# Altium footprint library PCB_Project.PcbLib: 7 footprints
Each footprint in its own frame and in the unit in brackets; x right, y up, seen from the top. Pads: shape width x height; smd on the part's side, far side on the other; paste and mask are expansions set on the pad; w line width, h text height; cw(c..) or ccw(c..) is an arc to the next point about the centre after c.
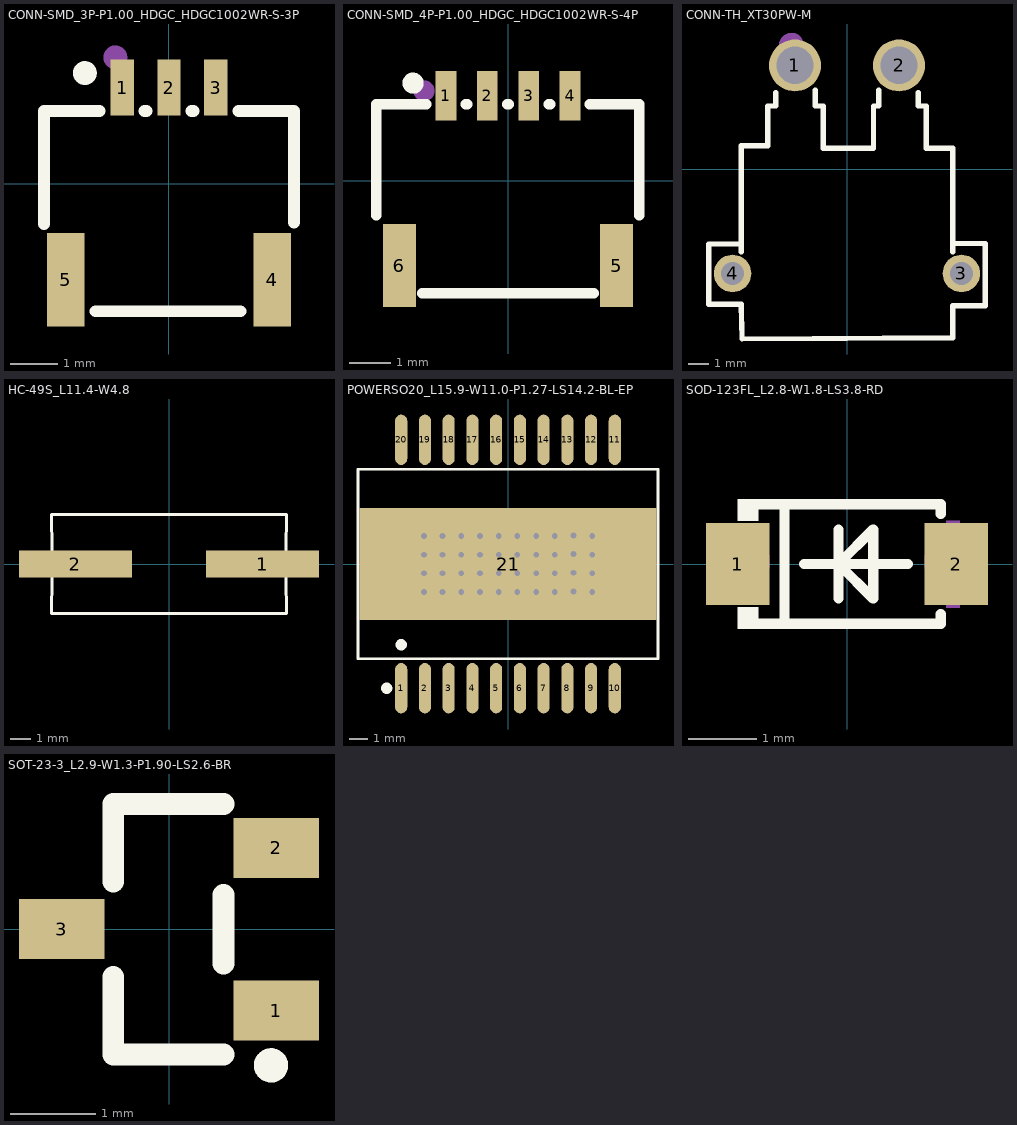
[diagram p0: the footprints below, top view; thin cyan lines are the x and y axes]

## CONN-SMD_3P-P1.00_HDGC_HDGC1002WR-S-3P [mm]
pads (5):
  rect 0.5x1.2 smd: 1(-1,2.05) 2(0,2.05) 3(1,2.05)
  rect 0.8x2 smd: 4(2.2,-2.05) 5(-2.2,-2.05)
Top Overlay:
  circle w0.254: c-1.794,2.358 r0.127
  lines w0.254: -2.667,-0.862 -2.667,1.551 -1.481,1.551 ; -1.569,-2.722 1.524,-2.722 ; -0.519,1.551 -0.481,1.551 ; 0.481,1.551 0.519,1.551 ; 1.481,1.551 2.667,1.551 2.667,-0.829
Mechanical 15:
  circle w0.254: c-1.143,2.694 r0.127

## CONN-SMD_4P-P1.00_HDGC_HDGC1002WR-S-4P [mm]
pads (6):
  rect 0.5x1.2 smd: 1(-1.5,2.05) 2(-0.5,2.05) 3(0.5,2.05) 4(1.5,2.05)
  rect 0.8x2 smd: 5(2.625,-2.05) 6(-2.625,-2.05)
Top Overlay:
  circle w0.254: c-2.294,2.358 r0.127
  lines w0.254: -3.183,-0.834 -3.183,1.85 -1.981,1.85 ; -2.069,-2.722 2.069,-2.722 ; -1.019,1.85 -0.981,1.85 ; -0.019,1.85 0.019,1.85 ; 0.981,1.85 1.019,1.85 ; 1.981,1.85 3.167,1.85 3.167,-0.829
Mechanical 15:
  circle w0.254: c-2.03,2.17 r0.127

## CONN-TH_XT30PW-M [mm]
pads (4):
  round 2.5 hole 1.8: 1(-2.5,5) 2(2.5,5)
  round 1.8 hole 1.1: 3(5.5,-5) 4(-5.5,-5)
Top Overlay:
  lines w0.254: -5.08,-3.95 -5.08,0.047 -5.08,1.143 -3.81,1.143 -3.81,3.048 -3.429,3.048 -3.429,3.683 ; -5.08,-3.585 -6.65,-3.585 -6.65,-6.48 -5.08,-6.48 -5.05,-8.15 5.08,-8.091 5.08,-6.549 ; -1.524,3.81 -1.524,3.048 -1.143,3.048 -1.143,1.016 1.27,1.016 1.27,3.048 1.524,3.048 1.524,3.81 ; 3.429,3.683 3.429,3.048 3.81,3.048 3.81,1.016 5.08,1.016 5.08,0.047 5.08,-3.95 ; 5.08,-6.55 6.65,-6.55 6.65,-3.559 5.08,-3.559
Mechanical 15:
  circle w0.6: c-2.667,5.969 r0.3

## HC-49S_L11.4-W4.8 [mm]
pads (2):
  rect 5.5x1.3 smd: 1(4.553,0) 2(-4.553,0)
Top Overlay:
  lines w0.152: -5.715,-2.413 -5.7,-0.662 -5.715,-2.413 ; -5.715,-2.413 5.715,-2.413 ; -5.715,-2.413 5.715,-2.413 ; -5.715,2.413 5.715,2.413 ; -5.715,2.413 -5.7,0.662 -5.715,2.413 ; -5.715,2.413 5.715,2.413 ; 5.715,-2.413 5.7,-0.662 5.715,-2.413 ; 5.715,2.413 5.7,0.662 5.715,2.413

## POWERSO20_L15.9-W11.0-P1.27-LS14.2-BL-EP [mm]
pads (21):
  oval 0.651x2.695 smd: 1(-5.715,-6.648) 2(-4.445,-6.648) 3(-3.175,-6.648) 4(-1.905,-6.648) 5(-0.635,-6.648) 6(0.635,-6.648) 7(1.905,-6.648) 8(3.175,-6.648) 9(4.445,-6.648) 10(5.715,-6.648) 11(5.715,6.648) 12(4.445,6.648) 13(3.175,6.648) 14(1.905,6.648) 15(0.635,6.648) 16(-0.635,6.648) 17(-1.905,6.648) 18(-3.175,6.648) 19(-4.445,6.648) 20(-5.715,6.648)
  rect 15.9x6 smd: 21(0,0)
via -4.5,1.5 diameter 0.61 hole 0.305
via -3.5,1.5 diameter 0.61 hole 0.305
via -2.5,1.5 diameter 0.61 hole 0.305
via -1.5,1.5 diameter 0.61 hole 0.305
via -0.5,1.5 diameter 0.61 hole 0.305
via 0.5,1.5 diameter 0.61 hole 0.305
via 1.515,1.5 diameter 0.61 hole 0.305
via 2.5,1.5 diameter 0.61 hole 0.305
via 3.5,1.53 diameter 0.61 hole 0.305
via 4.5,1.5 diameter 0.61 hole 0.305
via -4.5,0.5 diameter 0.61 hole 0.305
via -3.5,0.5 diameter 0.61 hole 0.305
via -2.5,0.5 diameter 0.61 hole 0.305
via -1.5,0.5 diameter 0.61 hole 0.305
via -0.5,0.5 diameter 0.61 hole 0.305
via 0.5,0.5 diameter 0.61 hole 0.305
via 1.515,0.5 diameter 0.61 hole 0.305
via 2.5,0.5 diameter 0.61 hole 0.305
via 3.5,0.53 diameter 0.61 hole 0.305
via 4.5,0.5 diameter 0.61 hole 0.305
via -4.5,-0.5 diameter 0.61 hole 0.305
via -3.5,-0.5 diameter 0.61 hole 0.305
via -2.5,-0.5 diameter 0.61 hole 0.305
via -1.5,-0.5 diameter 0.61 hole 0.305
via -0.5,-0.5 diameter 0.61 hole 0.305
via 0.5,-0.5 diameter 0.61 hole 0.305
via 1.515,-0.5 diameter 0.61 hole 0.305
via 2.5,-0.5 diameter 0.61 hole 0.305
via 3.5,-0.47 diameter 0.61 hole 0.305
via 4.5,-0.5 diameter 0.61 hole 0.305
via -4.5,-1.5 diameter 0.61 hole 0.305
via -3.5,-1.5 diameter 0.61 hole 0.305
via -2.5,-1.5 diameter 0.61 hole 0.305
via -1.5,-1.5 diameter 0.61 hole 0.305
via -0.5,-1.5 diameter 0.61 hole 0.305
via 0.5,-1.5 diameter 0.61 hole 0.305
via 1.515,-1.5 diameter 0.61 hole 0.305
via 2.5,-1.5 diameter 0.61 hole 0.305
via 3.5,-1.47 diameter 0.61 hole 0.305
via 4.5,-1.5 diameter 0.61 hole 0.305
Top Overlay:
  circle w0.3: c-6.493,-6.648 r0.15
  circle w0.3: c-5.715,-4.319 r0.15
  lines w0.152: -8.026,-5.071 8.026,-5.071 8.026,5.071 -8.026,5.071 -8.026,-5.071
Mechanical 15:
  circle w0.3: c-5.715,-7.5 r0.15

## SOD-123FL_L2.8-W1.8-LS3.8-RD [mm]
pads (2):
  rect 0.93x1.2 smd: 1(-1.6,0) 2(1.6,0)
Top Overlay:
  region: -1.3,0.952 -1.3,0.632 -1.605,0.632 -1.605,0.952
  region: -1.3,-0.952 -1.3,-0.632 -1.605,-0.632 -1.605,-0.952
  lines w0.15: -0.632,0 0.892,0 ; -0.124,-0.508 -0.124,0.508 ; -0.124,-0.254 -0.124,0.254 ; -0.124,0 0.384,0.508 0.384,-0.508 -0.124,0
  lines w0.152: -1.376,-0.876 1.376,-0.876 1.375,-0.735 ; -1.376,0.876 1.376,0.876 1.375,0.735 ; -0.917,-0.876 -0.917,0.876
Mechanical 15:
  region: -1.905,0.127 -1.905,-0.065 -1.137,-0.065 -1.137,0.127
  region: 1.905,0.127 1.905,-0.065 1.137,-0.065 1.137,0.127
  region: 1.651,0.635 1.651,-0.645 1.459,-0.645 1.459,0.635

## SOT-23-3_L2.9-W1.3-P1.90-LS2.6-BR [mm]
pads (3):
  rect 1x0.7 smd: 1(1.25,-0.95) 2(1.25,0.95) 3(-1.25,0)
Top Overlay:
  circle w0.2: c1.19,-1.588 r0.1
  lines w0.254: -0.65,-0.558 -0.65,-0.8 -0.65,-1.46 0.165,-1.46 0.635,-1.46 ; -0.65,0.558 -0.65,0.8 ; 0.635,-0.4 0.635,0.4 ; 0.635,1.46 0.165,1.46 -0.65,1.46 ; -0.65,0.8 -0.65,1.46 ; -0.65,0.8 -0.65,1.46 ; -0.65,0.8 -0.65,1.46
Mechanical 15:
  circle w0.254: c1.214,-0.983 r0.127